# Altium schematic symbol library Nixie_Supply.SchLib: 9 symbols
Pins are listed as number, name and electrical type; pins without a type are passive.

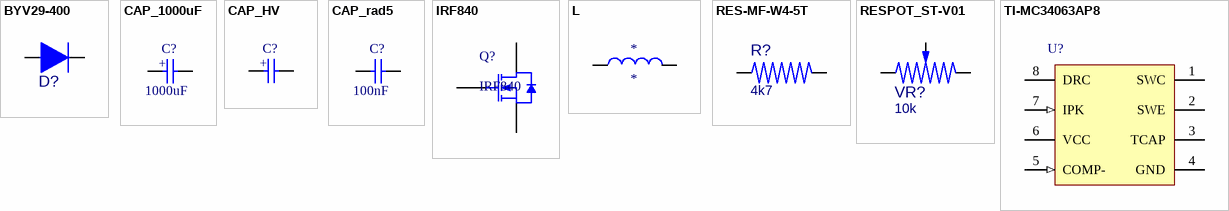
[diagram p0: symbols BYV29-400 to TI-MC34063AP8]

## BYV29-400
designator D?  (value not drawn)
Part Number: 104-5508; Supplier: Farnell
footprint D2PAK; pin to pad 1>3
pins: 1 A, 2 K

## CAP_1000uF
designator C?  value 1000uF  (hidden comment: CAP_1000uF)
footprint CAPsmd_rad10
pins: 1, 2
1 alternate drawing of the same symbol
text: +

## CAP_HV
designator C?  (value not drawn)
footprint CAP_HV
pins: 1, 2
1 alternate drawing of the same symbol
text: +

## CAP_rad5
designator C?  value 100nF  (hidden comment: CAP_rad5)
footprint cap rad5
pins: 1, 2
1 alternate drawing of the same symbol

## IRF840
designator Q?
footprint D2PAK
pins: 1 G "Gate pin", 2 D "Drain pin, including exposed thermal pad", 3 S "Source pin"

## L
designator *
footprint Coil
pins: 1, 2

## RES-MF-W4-5T
designator R?, comment 4k7
Resistor; Part Number: 947-6903; Supplier: Farnell
footprint AXIAL40(28X10)
pins: 1, 2

## RESPOT_ST-V01
designator VR?, comment 10k
Potentiometer; Part Number: 119-1725; Supplier: Farnell
footprint POT7x5
pins: 1, 2, 3

## TI-MC34063AP8
designator U?
footprint SOIC8
pins: 1 SWC (oc), 2 SWE (oe), 3 TCAP, 4 GND (power), 5 COMP- (in), 6 VCC (power), 7 IPK (in), 8 DRC (oc)